# EAGLE library part PCM5242RHBT (library Fugu_LSI)
114-dB Audio Stereo Differential-Output DAC with 32-bit, 384-kHz PCM Interface
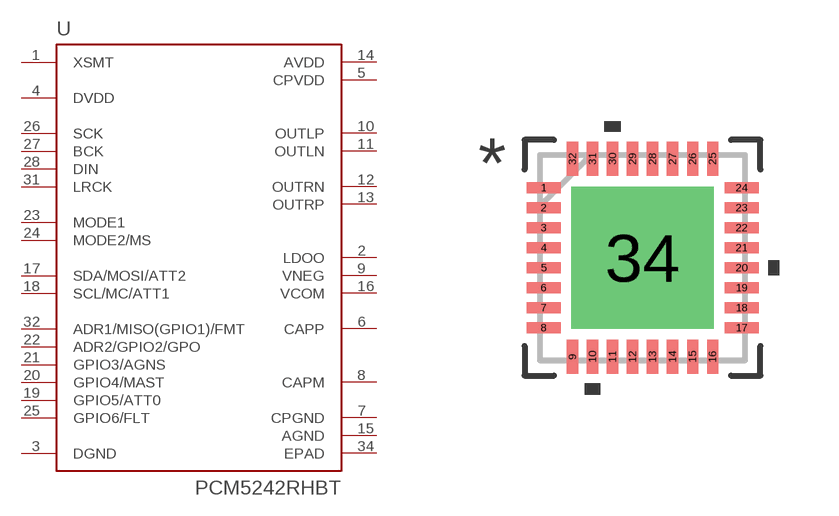
[diagram p36: symbol with the pads of RHB32_3P45X3P45; footprint RHB32_3P45X3P45]

Designator prefix U

## PCM5242RHBT (MANUFACTURER_PART_NUMBER: PCM5242RHBT; VENDOR: Texas Instruments)  [RHB32_3P45X3P45]
1  XSMT  in
2  LDOO  out
3  DGND  pwr
4  DVDD  pwr
5  CPVDD  pwr
6  CAPP  out
7  CPGND  pwr
8  CAPM  out
9  VNEG  out
10  OUTLP  out
11  OUTLN  out
12  OUTRN  out
13  OUTRP  out
14  AVDD  pwr
15  AGND  pwr
16  VCOM
17  SDA/MOSI/ATT2
18  SCL/MC/ATT1  in
19  GPIO5/ATT0
20  GPIO4/MAST
21  GPIO3/AGNS
22  ADR2/GPIO2/GPO
23  MODE1  in
24  MODE2/MS  in
25  GPIO6/FLT
26  SCK  in
27  BCK
28  DIN  in
31  LRCK
32  ADR1/MISO(GPIO1)/FMT
34  EPAD  pas

## Footprint RHB32_3P45X3P45 (pad centres in mm)
smd 0.85 x 0.28: 1 -2.475,1.75; 2 -2.475,1.25; 3 -2.475,0.75; 4 -2.475,0.25; 5 -2.475,-0.25; 6 -2.475,-0.75; 7 -2.475,-1.25; 8 -2.475,-1.75; 17 2.475,-1.75; 18 2.475,-1.25; 19 2.475,-0.75; 20 2.475,-0.25; 21 2.475,0.25; 22 2.475,0.75; 23 2.475,1.25; 24 2.475,1.75
smd 0.28 x 0.85: 9 -1.75,-2.475; 10 -1.25,-2.475; 11 -0.75,-2.475; 12 -0.25,-2.475; 13 0.25,-2.475; 14 0.75,-2.475; 15 1.25,-2.475; 16 1.75,-2.475; 25 1.75,2.475; 26 1.25,2.475; 27 0.75,2.475; 28 0.25,2.475; 29 -0.25,2.475; 30 -0.75,2.475; 31 -1.25,2.475; 32 -1.75,2.475
drill 1.5 pad 3.556 square: 34 0,0